# Altium schematic symbol library TXS0108EPWR.SchLib: 1 symbol
Pins are listed as number, name and electrical type; pins without a type are passive.

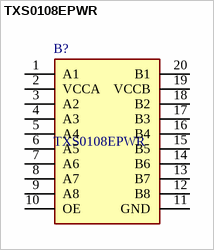
[diagram p0: symbol TXS0108EPWR]

## TXS0108EPWR
designator B?
TXS0108EPWR, Voltage Level Translator, Open Drain 1.2  3.6 V, 1.65  5.5 V 20-Pin TSSOP; Manufacturer_Name: Texas Instruments; Geometry.Height: 1.2mm; Mouser Part Number: 595-TXS0108EPWR; Mouser Price/Stock: https://www.mouser.co.uk/ProductDetail/Texas-Instruments/TXS0108EPWR?qs=IUbkBnfnSQLgiWtCbWtYOw%3D%3D; Manufacturer_Part_Number: TXS0108EPWR; Datasheet Link: http://www.ti.com/lit/ds/symlink/txs0108e.pdf
footprint SOP65P640X120-20N
pins: 1 A1, 2 VCCA, 3 A2, 4 A3, 5 A4, 6 A5, 7 A6, 8 A7, 9 A8, 10 OE, 11 GND, 12 B8, 13 B7, 14 B6, 15 B5, 16 B4, 17 B3, 18 B2, 19 VCCB, 20 B1